# EAGLE library part HEADER_2_X_20_4_CONTROLLER (library 3D_MIG_Controller)
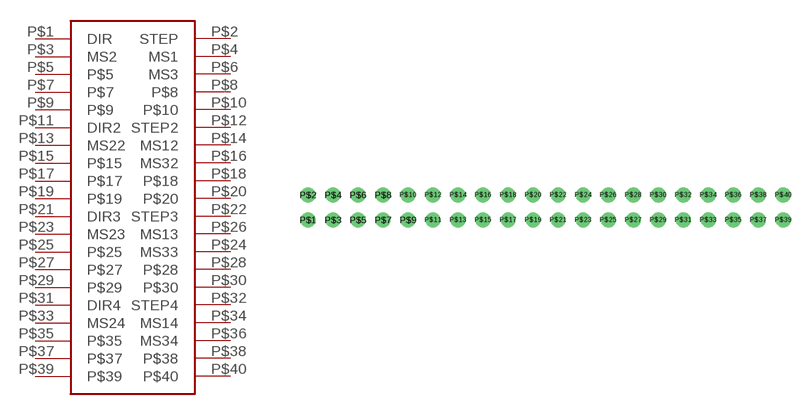
[diagram p12: symbol with the pads of HEADER_2_X_20_.1_INCH; footprint HEADER_2_X_20_.1_INCH]

Designator prefix J

## HEADER_2_X_20_4_CONTROLLER  [HEADER_2_X_20_.1_INCH]
P$1  DIR
P$2  STEP
P$3  MS2
P$4  MS1
P$5  P$5
P$6  MS3
P$7  P$7
P$8  P$8
P$9  P$9
P$10  P$10
P$11  DIR2
P$12  STEP2
P$13  MS22
P$14  MS12
P$15  P$15
P$16  MS32
P$17  P$17
P$18  P$18
P$19  P$19
P$20  P$20
P$21  DIR3
P$22  STEP3
P$23  MS23
P$24  MS33
P$25  P$25
P$26  MS13
P$27  P$27
P$28  P$28
P$29  P$29
P$30  P$30
P$31  DIR4
P$32  STEP4
P$33  MS24
P$34  MS14
P$35  P$35
P$36  MS34
P$37  P$37
P$38  P$38
P$39  P$39
P$40  P$40

## Footprint HEADER_2_X_20_.1_INCH (pad centres in mm)
drill 1: P$1 -24.13,-1.27; P$2 -24.13,1.27; P$3 -21.59,-1.27; P$4 -21.59,1.27; P$5 -19.05,-1.27; P$6 -19.05,1.27; P$7 -16.51,-1.27; P$8 -16.51,1.27; P$9 -13.97,-1.27; P$10 -13.97,1.27; P$11 -11.43,-1.27; P$12 -11.43,1.27; P$13 -8.89,-1.27; P$14 -8.89,1.27; P$15 -6.35,-1.27; P$16 -6.35,1.27; P$17 -3.81,-1.27; P$18 -3.81,1.27; P$19 -1.27,-1.27; P$20 -1.27,1.27; P$21 1.27,-1.27; P$22 1.27,1.27; P$23 3.81,-1.27; P$24 3.81,1.27; P$25 6.35,-1.27; P$26 6.35,1.27; P$27 8.89,-1.27; P$28 8.89,1.27; P$29 11.43,-1.27; P$30 11.43,1.27; P$31 13.97,-1.27; P$32 13.97,1.27; P$33 16.51,-1.27; P$34 16.51,1.27; P$35 19.05,-1.27; P$36 19.05,1.27; P$37 21.59,-1.27; P$38 21.59,1.27; P$39 24.13,-1.27; P$40 24.13,1.27